# Altium schematic symbol library AD5263BRUZ50.SchLib: 1 symbol
Pins are listed as number, name and electrical type; pins without a type are passive.

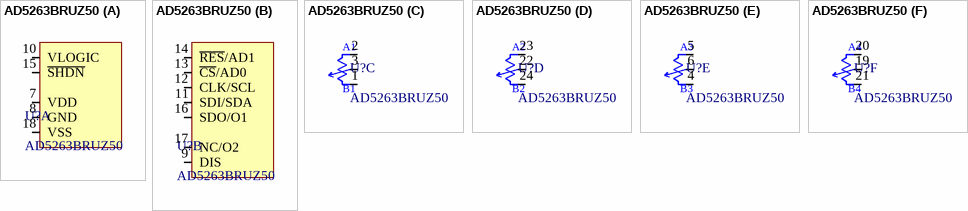
[diagram p0: symbol AD5263BRUZ50]

## AD5263BRUZ50
designator U?
Digital Potentiometer 50k Ohm 4 Circuit 256 Taps I²C, SPI Interface 24-TSSOP; Type: AD5263BRUZ50; Supplier 1: Digi-Key; Supplier Part Number 1: 505-AD5263BRUZ50-ND
footprint TSSOP24_0.65_C (TSOP, 24-Leads, Body 7.80x4.40mm, Pitch 0.65mm, IPC High Density)
part A pins: 7 VDD, 8 GND, 10 VLOGIC, 15 ~{SHDN}, 18 VSS
part B pins: 9 DIS, 11 SDI/SDA, 12 CLK/SCL, 13 ~{CS}/AD0, 14 ~{RES}/AD1, 16 SDO/O1, 17 NC/O2
part C pins: 1 B1, 2 A1, 3 W1
part D pins: 22 W2, 23 A2, 24 B2
part E pins: 4 B3, 5 A3, 6 W3
part F pins: 19 W4, 20 A4, 21 B4